# Altium schematic symbol library B3U-1000P.SchLib: 1 symbol
Pins are listed as number, name and electrical type; pins without a type are passive.

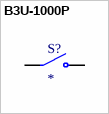
[diagram p0: symbol B3U-1000P]

## B3U-1000P
designator S?
footprint B3U-1000P
pins: 1, 2